# Altium footprint library Composants_Projet_PCB_TP9.PcbLib: 19 footprints (part 1 of 2)
Each footprint in its own frame and in the unit in brackets; x right, y up, seen from the top. Pads: shape width x height; smd on the part's side, far side on the other; paste and mask are expansions set on the pad; w line width, h text height; cw(c..) or ccw(c..) is an arc to the next point about the centre after c.
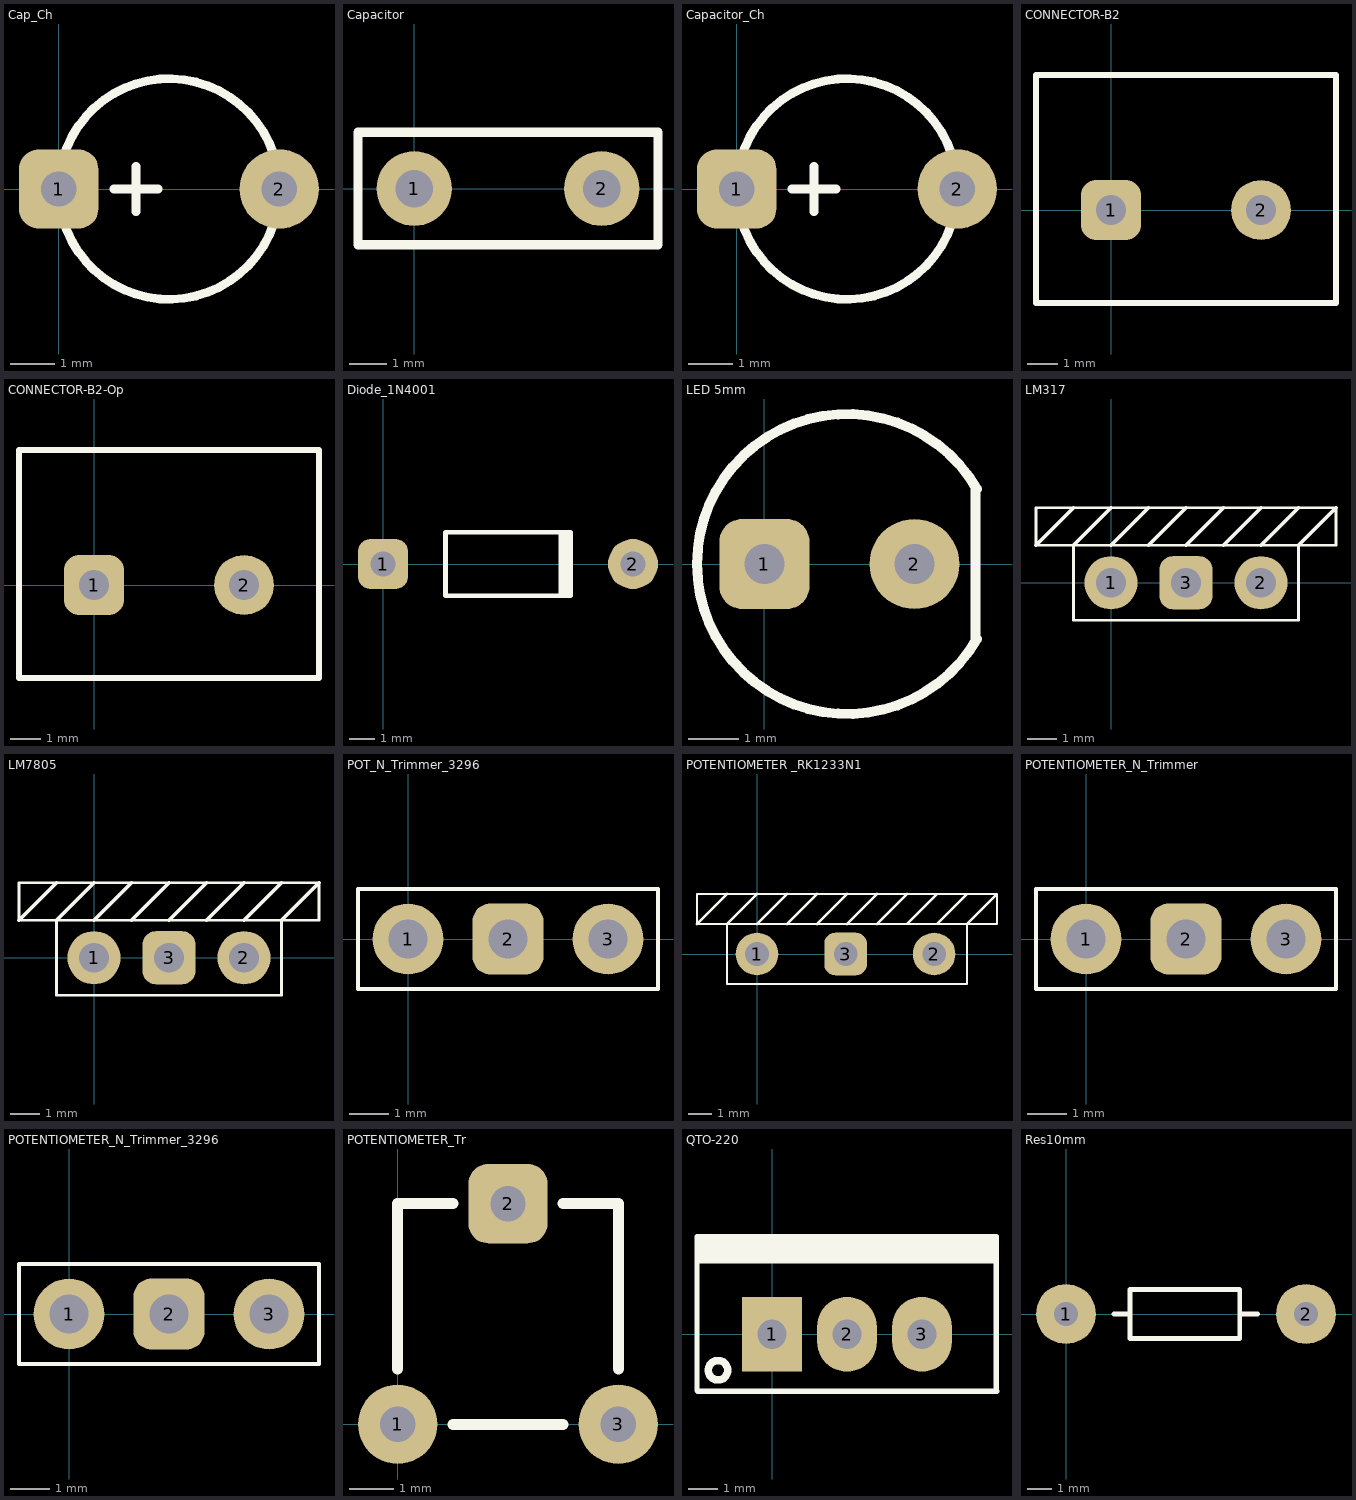
[diagram p0: the footprints below, top view; thin cyan lines are the x and y axes]

## Cap_Ch [mm]
pads (2):
  rrect50% 1.8x1.8 hole 0.8: 1(0,0)
  round 1.8 hole 0.8: 2(5,0)
Top Overlay:
  circle w0.2: c2.5,0 r2.5
  lines w0.2: 1.25,0 2.25,0 ; 1.75,-0.508 1.75,0.508

## Capacitor [mm]
pads (2):
  round 2 hole 1: 1(0,0) 2(5,0)
Top Overlay:
  lines w0.1: -1.27,-1.524 -1.246,-1.5
  lines w0.25: -1.5,-1.5 -1.5,1.5 6.5,1.5 6.5,-1.5 -1.5,-1.5
3D body "Capacitor 0,1uF 5,08 mm.STEP": height 5.75, standoff -2.64, extent -0.25,-1.1 5.33,1.11

## Capacitor_Ch [mm]
pads (2):
  rrect50% 1.8x1.8 hole 0.8: 1(0,0)
  round 1.8 hole 0.8: 2(5,0)
Top Overlay:
  circle w0.2: c2.5,0 r2.5
  lines w0.2: 1.25,0 2.25,0 ; 1.75,-0.508 1.75,0.508
3D body "Capacitor 1uF 50V 11x5mm.STEP": height 10.85, standoff -3.21, extent 0.021,-2.54 5.059,2.47

## CONNECTOR-B2 [mm] "HEADER 2PINS"
pads (2):
  rrect50% 2x2 hole 1: 1(0,0)
  round 2 hole 1: 2(5,0)
Top Overlay:
  lines w0.2: -2.5,-3.1 7.5,-3.1 7.5,4.5 -2.5,4.5 -2.5,-3.1
3D body "2 Way Screw Terminal Block 5mm.stp": height 15.05, standoff -2.55, extent -2.46,-4.572 7.54,4.428

## CONNECTOR-B2-Op [mm] "HEADER 2PINS"
pads (2):
  rrect50% 2x2 hole 1: 1(0,0)
  round 2 hole 1: 2(5,0)
Top Overlay:
  lines w0.2: -2.5,-3.1 -2.5,4.5 7.5,4.5 7.5,-3.1 -2.5,-3.1
3D body "2 Way Screw Terminal Block 5mm.stp": height 15.05, standoff -2.55, extent -2.46,-4.445 7.54,4.555

## Diode_1N4001 [mm]
pads (2):
  rrect50% 2x2 hole 1: 1(0,0)
  round 2 hole 1: 2(10,0)
Top Overlay:
  lines w0.2: 7.119,-1.27 7.119,1.27 ; 7.246,-1.27 7.246,1.27 ; 7.373,-1.27 7.373,1.27 ; 2.5,-1.27 7.5,-1.27 7.5,1.27 2.5,1.27 2.5,-1.27
3D body "Diode 1N4001-DO-41 10mm.STEP": height 4.36, standoff -1, extent -0.473,-1.362 10.387,1.363

## LED 5mm [mm]
pads (2):
  rrect50% 1.8x1.8 hole 0.8: 1(0,0)
  round 1.8 hole 0.8: 2(3,0)
Top Overlay:
  lines w0.2: 4.225,-1.5 4.225,1.5 ; 4.249,-1.5 cw(c1.651,0) 4.249,1.5
3D body "LEDd5R.STEP": height 12.31, standoff -2.49, extent -1.456,-3.01 3.964,3.01

## LM317 [mm]
pads (3):
  round 1.8 hole 1: 1(0,0) 2(5.08,0)
  rrect50% 1.8x1.8 hole 1: 3(2.54,0)
Top Overlay:
  lines w0.1: -1.27,1.27 -2.54,1.27 -2.54,2.54 7.62,2.54 7.62,1.27 6.35,1.27 ; -1.27,1.27 -1.27,-1.27 6.35,-1.27 6.35,1.27 ; -1.27,1.27 6.35,1.27
  lines w0.125: -2.54,1.27 -1.27,2.54 ; -1.27,1.27 0,2.54 ; 0,1.27 1.27,2.54 ; 1.27,1.27 2.54,2.54 ; 2.54,1.27 3.81,2.54 ; 3.81,1.27 5.08,2.54 ; 5.08,1.27 6.35,2.54 ; 6.35,1.27 7.62,2.54
3D body "LM317 TO3B_(TO220).STEP": height 20, standoff -8.4, extent -2.66,-1.778 7.74,2.722

## LM7805 [mm]
pads (3):
  round 1.8 hole 1: 1(0,0) 2(5.08,0)
  rrect50% 1.8x1.8 hole 1: 3(2.54,0)
Top Overlay:
  lines w0.1: -1.27,1.27 6.35,1.27 ; -1.27,1.27 -1.27,-1.27 6.35,-1.27 6.35,1.27 ; -1.27,1.27 -2.54,1.27 -2.54,2.54 7.62,2.54 7.62,1.27 6.35,1.27
  lines w0.125: -2.54,1.27 -1.27,2.54 ; -1.27,1.27 0,2.54 ; 0,1.27 1.27,2.54 ; 1.27,1.27 2.54,2.54 ; 2.54,1.27 3.81,2.54 ; 3.81,1.27 5.08,2.54 ; 5.08,1.27 6.35,2.54 ; 6.35,1.27 7.62,2.54
3D body "LM7805.STEP": height 25.12, standoff -5.25, extent -2.795,-1.397 7.875,3.303

## POT_N_Trimmer_3296 [mm]
pads (3):
  round 1.8 hole 1: 1(0,0) 3(5.08,0)
  rrect50% 1.8x1.8 hole 1: 2(2.54,0)
Top Overlay:
  lines w0.1: -1.27,-1.27 6.35,-1.27 6.35,1.27 -1.27,1.27 -1.27,-1.27

## POTENTIOMETER _RK1233N1 [mm]
pads (3):
  round 1.8 hole 1: 1(0,0) 2(7.5,0)
  rrect50% 1.8x1.8 hole 1: 3(3.75,0)
Top Overlay:
  lines w0.1: 7.62,1.27 8.89,2.54 ; 7.62,2.54 6.35,1.27 ; -1.27,1.27 6.35,1.27 ; -1.27,1.27 -1.27,-1.27 8.89,-1.27 8.89,1.27 10.16,2.54 ; -1.27,1.27 -2.54,1.27 -2.54,2.54 10.16,2.54 ; 6.35,1.27 10.16,1.27 10.16,2.54
  lines w0.125: -2.54,1.27 -1.27,2.54 ; -1.27,1.27 0,2.54 ; 0,1.27 1.27,2.54 ; 1.27,1.27 2.54,2.54 ; 2.54,1.27 3.81,2.54 ; 3.81,1.27 5.08,2.54 ; 5.08,1.27 6.35,2.54
3D body "POT RK1233N1.STEP": height 16.58, standoff -2.82, extent -2.804,-20.15 10.223,4.85

## POTENTIOMETER_N_Trimmer [mm]
pads (3):
  round 1.8 hole 1: 1(0,0) 3(5.08,0)
  rrect50% 1.8x1.8 hole 1: 2(2.54,0)
Top Overlay:
  lines w0.1: -1.27,-1.27 6.35,-1.27 6.35,1.27 -1.27,1.27 -1.27,-1.27
3D body "POT bourns 3296.STEP": height 11.55, standoff -6.4, extent -2.225,-2.413 7.305,2.418

## POTENTIOMETER_N_Trimmer_3296 [mm]
pads (3):
  round 1.8 hole 1: 1(0,0) 3(5.08,0)
  rrect50% 1.8x1.8 hole 1: 2(2.54,0)
Top Overlay:
  lines w0.1: -1.27,-1.27 6.35,-1.27 6.35,1.27 -1.27,1.27 -1.27,-1.27
3D body "POT bourns 3296.STEP": height 11.55, standoff -6.4, extent -2.225,-2.413 7.305,2.418

## POTENTIOMETER_Tr [mm]
pads (3):
  round 1.8 hole 0.8: 1(0,0) 3(5,0)
  rrect50% 1.8x1.8 hole 0.8: 2(2.5,5)
Top Overlay:
  lines w0.25: 0,1.25 0,5 1.25,5 ; 1.25,0 3.75,0 ; 3.75,5 5,5 5,1.25

## QTO-220 [mil]
pads (3):
  rect 80x100 hole 39: 1(0,0)
  oval 80x100 hole 39: 2(100,0) 3(200,0)
Top Overlay:
  circle w10: c-72.03,-48 r12.97
  rectangle: -99,94 300,130
  lines w7: 298,107 299,93 ; -100,-75 -100,130 299,130 299,-75 300,-76 -76,-76 -99,-76 -100,-75
3D body "SW3dPS-TO220AB.STEP": height 754.72, standoff -400, extent -119,-64 322.46,120.65

## Res10mm [mm]
pads (2):
  round 2.5 hole 1: 1(0,0) 2(10,0)
Top Overlay:
  lines w0.2: 2,0 2.667,0 ; 7.239,0 7.977,0 ; 2.667,-1.016 7.239,-1.016 7.239,1.016 2.667,1.016 2.667,-1.016
3D body "User Library-Res40-Axial 0_25W-1K.STEP": height 2.41, standoff -2, extent -0.427,-1.2 10.333,1.2